# Altium schematic symbol library Copal.SchLib: 1 symbol
Pins are listed as number, name and electrical type; pins without a type are passive.

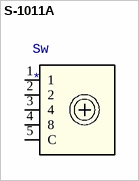
[diagram p0: symbol S-1011A]

## S-1011A
designator Sw
Code Switch, 4Ch, hexadecimal, right angled; Manufacturer: Copal Electronics Inc; Value: S-1011A; Supplier 1: Digi-Key; Supplier Part Number 1: 563-1044-ND; Manufacturer Part Number: S-1011A; Pricing: 1=2.35, 25=2.1616, 50=2.0206, 100=1.9734, 250=1.69148, 500=1.6445, 1000=1.40958 (EUR); ComponentLink1URL: http://www.nidec-copal-electronics.com/e/catalog/switch/s-1000a&s-2000a.pdf; ComponentLink1Description: http://www.nidec-copal-electronics.com/e/catalog/switch/s-1000a&s-2000a.pdf
footprint Code Switch Side (Hexadecimal Code Switch, 4 Channels, Rightangled)
pins: 1, 2, 3 4, 4 8, 5 C